# Altium schematic symbol library K4S561632C.SchLib: 1 symbol
Pins are listed as number, name and electrical type; pins without a type are passive.

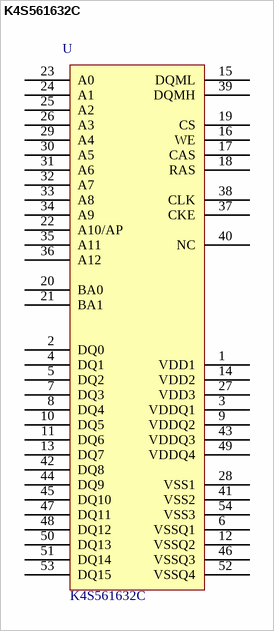
[diagram p0: symbol K4S561632C]

## K4S561632C
designator U  value K4S561632C  (hidden comment: *)
footprint TSOP54 (Footprint not found)
pins: 1 VDD1, 2 DQ0, 3 VDDQ1, 4 DQ1, 5 DQ2, 6 VSSQ1, 7 DQ3, 8 DQ4, 9 VDDQ2, 10 DQ5, 11 DQ6, 12 VSSQ2, 13 DQ7, 14 VDD2, 15 DQML, 16 WE, 17 CAS, 18 RAS, 19 CS, 20 BA0, 21 BA1, 22 A10/AP, 23 A0, 24 A1, 25 A2, 26 A3, 27 VDD3, 28 VSS1, 29 A4, 30 A5, 31 A6, 32 A7, 33 A8, 34 A9, 35 A11, 36 A12, 37 CKE, 38 CLK, 39 DQMH, 40 NC, 41 VSS2, 42 DQ8, 43 VDDQ3, 44 DQ9, 45 DQ10, 46 VSSQ3, 47 DQ11, 48 DQ12, 49 VDDQ4, 50 DQ13, 51 DQ14, 52 VSSQ4, 53 DQ15, 54 VSS3